# Altium integrated library Memory.IntLib: 11 symbols
Pins are listed as number, name and electrical type; pins without a type are passive.

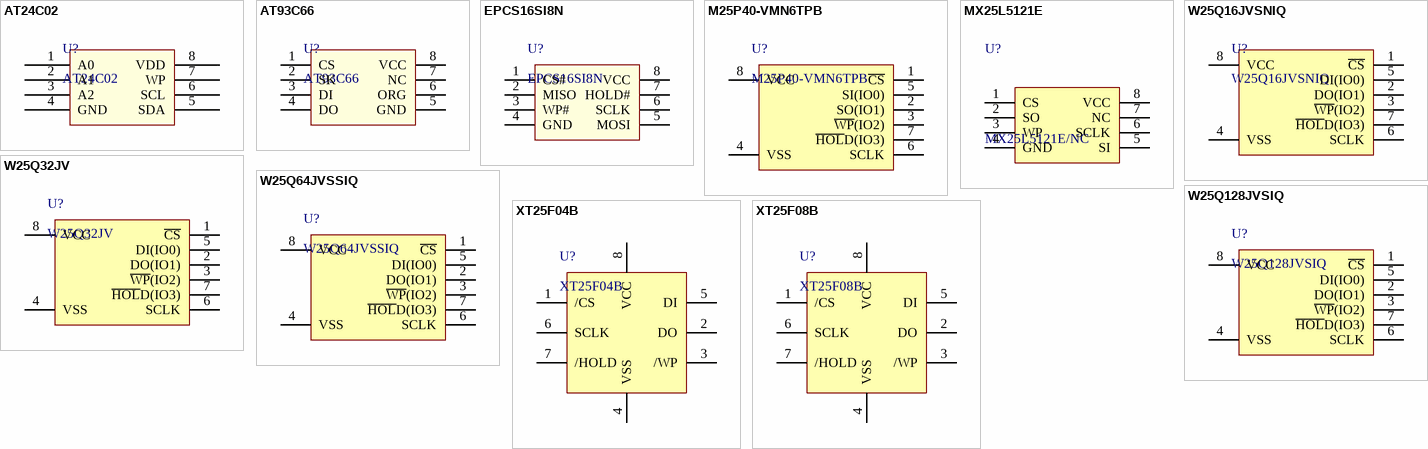
[diagram p0: symbols AT24C02 to XT25F08B]

## AT24C02
designator U?
footprint SO-8_3.9x4.9mm_P1.27mm (SOIC, 8-Leads, Body 4.9x3.90mm, Pitch 1.27mm, IPC Medium Density)
pins: 1 A0, 2 A1, 3 A2, 4 GND, 5 SDA, 6 SCL, 7 WP, 8 VDD

## AT93C66
designator U?
footprint SO-8_3.9x4.9mm_P1.27mm (SOIC, 8-Leads, Body 4.9x3.90mm, Pitch 1.27mm, IPC Medium Density)
pins: 1 CS, 2 SK, 3 DI, 4 DO, 5 GND, 6 ORG, 7 NC, 8 VCC

## EPCS16SI8N
designator U?
FPGA配置芯片 EPCS16SI8N
footprint SO-8_3.9x4.9mm_P1.27mm (SOIC, 8-Leads, Body 4.9x3.90mm, Pitch 1.27mm, IPC Medium Density)
pins: 1 CS#, 2 MISO, 3 WP#, 4 GND, 5 MOSI, 6 SCLK, 7 HOLD#, 8 VCC

## M25P40-VMN6TPB
designator U?
SPI-NOR FLASH
footprint SO-8_208mil (SOIC, 8-Leads, Body 5.28x5.28mm, Pitch 1.27mm, IPC Medium Density)
pins: 1 ~{CS}, 2 SO(IO1), 3 ~{WP}(IO2), 4 VSS, 5 SI(IO0), 6 SCLK, 7 ~{HOL}D(IO3), 8 VCC

## MX25L5121E
designator U?, comment MX25L5121E/NC
MX25L5121E
footprint SOIC-8_150mil
pins: 1 CS, 2 SO, 3 WP, 4 GND, 5 SI, 6 SCLK, 7 NC, 8 VCC

## W25Q16JVSNIQ
designator U?
footprint SO-8_3.9x4.9mm_P1.27mm (SOIC, 8-Leads, Body 4.9x3.90mm, Pitch 1.27mm, IPC Medium Density)
pins: 1 ~{CS}, 2 DO(IO1), 3 ~{WP}(IO2), 4 VSS, 5 DI(IO0), 6 SCLK, 7 ~{HOL}D(IO3), 8 VCC

## W25Q32JV
designator U?
3V 32M-BIT SERIAL FLASH MEMORY WITH DUAL, QUAD SPI
footprint SO-8_208mil (SOIC, 8-Leads, Body 5.28x5.28mm, Pitch 1.27mm, IPC Medium Density)
pins: 1 ~{CS}, 2 DO(IO1), 3 ~{WP}(IO2), 4 VSS, 5 DI(IO0), 6 SCLK, 7 ~{HOL}D(IO3), 8 VCC

## W25Q64JVSSIQ
designator U?
3V 64M-BIT SERIAL FLASH MEMORY WITH DUAL, QUAD SPI
footprint SO-8_208mil (SOIC, 8-Leads, Body 5.28x5.28mm, Pitch 1.27mm, IPC Medium Density)
pins: 1 ~{CS}, 2 DO(IO1), 3 ~{WP}(IO2), 4 VSS, 5 DI(IO0), 6 SCLK, 7 ~{HOL}D(IO3), 8 VCC

## W25Q128JVSIQ
designator U?
3V 128M-BIT SERIAL FLASH MEMORY WITH DUAL, QUAD SPI
footprint SO-8_208mil (SOIC, 8-Leads, Body 5.28x5.28mm, Pitch 1.27mm, IPC Medium Density)
pins: 1 ~{CS}, 2 DO(IO1), 3 ~{WP}(IO2), 4 VSS, 5 DI(IO0), 6 SCLK, 7 ~{HOL}D(IO3), 8 VCC

## XT25F04B
designator U?
4M bits 3V Single I/O Serial Flash Memory with 4KB Uniform Sector
footprint SO-8_3.9x4.9mm_P1.27mm (SOIC, 8-Leads, Body 4.9x3.90mm, Pitch 1.27mm, IPC Medium Density)
pins: 1 /CS, 2 DO, 3 /WP, 4 VSS, 5 DI, 6 SCLK, 7 /HOLD, 8 VCC

## XT25F08B
designator U?
8M bit Quad IO Serial NOR Flash 3.3V Multi I/O with 4KB, 32KB & 64KB Sector/Block Erase
footprint DFN-8-1EP_3x2mm_P0.5mm_EP0.2x1.6mm (SON, 8-Leads, Body 2.00x3.00mm, Pitch 0.50mm, Thermal Pad 1.60x0.20mm, IPC Medium Density)
pins: 1 /CS, 2 DO, 3 /WP, 4 VSS, 5 DI, 6 SCLK, 7 /HOLD, 8 VCC